# EAGLE library part STM32F4R_64PIN (library gimbal)
64-pin STM32F4 chip.
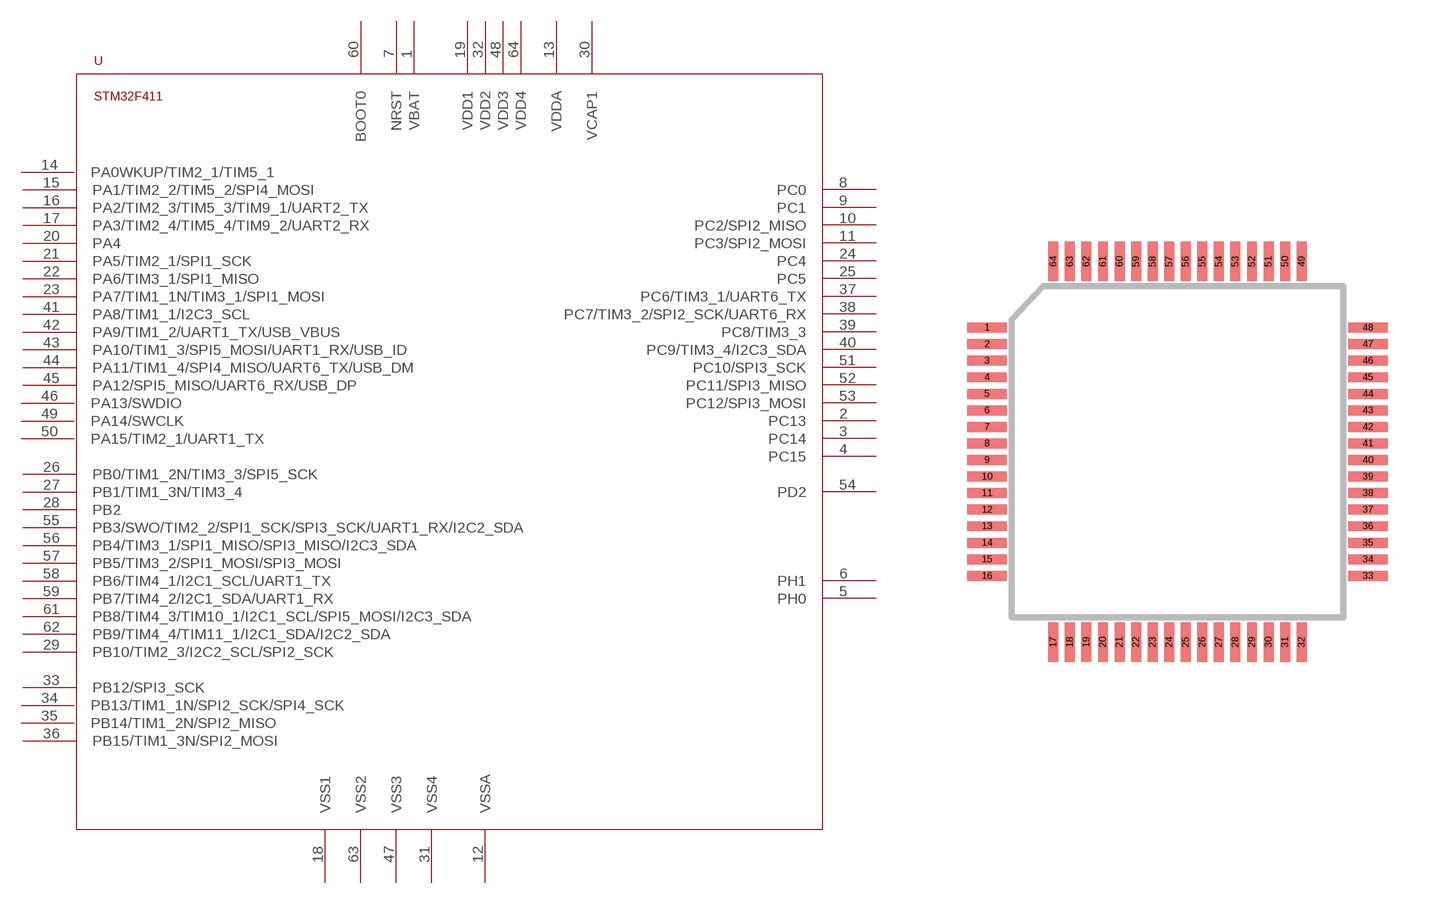
[diagram p2: symbol with the pads of LQFP64; footprint LQFP64]

Designator prefix -

## STM32F4R_64PIN  [LQFP64]
1  VBAT
2  PC13
3  PC14
4  PC15
5  PH0
6  PH1
7  NRST
8  PC0
9  PC1
10  PC2/SPI2_MISO
11  PC3/SPI2_MOSI
12  VSSA
13  VDDA
14  PA0WKUP/TIM2_1/TIM5_1
15  PA1/TIM2_2/TIM5_2/SPI4_MOSI
16  PA2/TIM2_3/TIM5_3/TIM9_1/UART2_TX
17  PA3/TIM2_4/TIM5_4/TIM9_2/UART2_RX
18  VSS1
19  VDD1
20  PA4
21  PA5/TIM2_1/SPI1_SCK
22  PA6/TIM3_1/SPI1_MISO
23  PA7/TIM1_1N/TIM3_1/SPI1_MOSI
24  PC4
25  PC5
26  PB0/TIM1_2N/TIM3_3/SPI5_SCK
27  PB1/TIM1_3N/TIM3_4
28  PB2
29  PB10/TIM2_3/I2C2_SCL/SPI2_SCK
30  VCAP1
31  VSS4
32  VDD2
33  PB12/SPI3_SCK
34  PB13/TIM1_1N/SPI2_SCK/SPI4_SCK
35  PB14/TIM1_2N/SPI2_MISO
36  PB15/TIM1_3N/SPI2_MOSI
37  PC6/TIM3_1/UART6_TX
38  PC7/TIM3_2/SPI2_SCK/UART6_RX
39  PC8/TIM3_3
40  PC9/TIM3_4/I2C3_SDA
41  PA8/TIM1_1/I2C3_SCL
42  PA9/TIM1_2/UART1_TX/USB_VBUS
43  PA10/TIM1_3/SPI5_MOSI/UART1_RX/USB_ID
44  PA11/TIM1_4/SPI4_MISO/UART6_TX/USB_DM
45  PA12/SPI5_MISO/UART6_RX/USB_DP
46  PA13/SWDIO
47  VSS3
48  VDD3
49  PA14/SWCLK
50  PA15/TIM2_1/UART1_TX
51  PC10/SPI3_SCK
52  PC11/SPI3_MISO
53  PC12/SPI3_MOSI
54  PD2
55  PB3/SWO/TIM2_2/SPI1_SCK/SPI3_SCK/UART1_RX/I2C2_SDA
56  PB4/TIM3_1/SPI1_MISO/SPI3_MISO/I2C3_SDA
57  PB5/TIM3_2/SPI1_MOSI/SPI3_MOSI
58  PB6/TIM4_1/I2C1_SCL/UART1_TX
59  PB7/TIM4_2/I2C1_SDA/UART1_RX
60  BOOT0
61  PB8/TIM4_3/TIM10_1/I2C1_SCL/SPI5_MOSI/I2C3_SDA
62  PB9/TIM4_4/TIM11_1/I2C1_SDA/I2C2_SDA
63  VSS2
64  VDD4

## Footprint LQFP64 (pad centres in mm)
smd 1.2 x 0.3: 1 -5.75,3.75; 2 -5.75,3.25; 3 -5.75,2.75; 4 -5.75,2.25; 5 -5.75,1.75; 6 -5.75,1.25; 7 -5.75,0.75; 8 -5.75,0.25; 9 -5.75,-0.25; 10 -5.75,-0.75; 11 -5.75,-1.25; 12 -5.75,-1.75; 13 -5.75,-2.25; 14 -5.75,-2.75; 15 -5.75,-3.25; 16 -5.75,-3.75; 33 5.75,-3.75; 34 5.75,-3.25; 35 5.75,-2.75; 36 5.75,-2.25; 37 5.75,-1.75; 38 5.75,-1.25; 39 5.75,-0.75; 40 5.75,-0.25; 41 5.75,0.25; 42 5.75,0.75; 43 5.75,1.25; 44 5.75,1.75; 45 5.75,2.25; 46 5.75,2.75; 47 5.75,3.25; 48 5.75,3.75
smd 0.3 x 1.2: 17 -3.75,-5.75; 18 -3.25,-5.75; 19 -2.75,-5.75; 20 -2.25,-5.75; 21 -1.75,-5.75; 22 -1.25,-5.75; 23 -0.75,-5.75; 24 -0.25,-5.75; 25 0.25,-5.75; 26 0.75,-5.75; 27 1.25,-5.75; 28 1.75,-5.75; 29 2.25,-5.75; 30 2.75,-5.75; 31 3.25,-5.75; 32 3.75,-5.75; 49 3.75,5.75; 50 3.25,5.75; 51 2.75,5.75; 52 2.25,5.75; 53 1.75,5.75; 54 1.25,5.75; 55 0.75,5.75; 56 0.25,5.75; 57 -0.25,5.75; 58 -0.75,5.75; 59 -1.25,5.75; 60 -1.75,5.75; 61 -2.25,5.75; 62 -2.75,5.75; 63 -3.25,5.75; 64 -3.75,5.75